# EAGLE library part NRF24L01 (library Fortech)
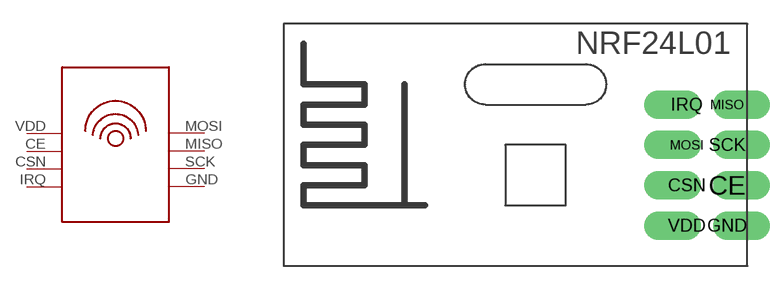
[diagram p6: symbol with the pads of NRF24L01; footprint NRF24L01]

Designator prefix -

## NRF24L01  [NRF24L01]
CE  CE
CSN  CSN
GND  GND
IRQ  IRQ
MISO  MISO
MOSI  MOSI
SCK  SCK
VDD  VDD

## Footprint NRF24L01 (pad centres in mm)
drill 1.2 offset: CE 1.27,-2.54; CSN -1.27,-2.54; GND 1.27,-5.08; IRQ -1.27,2.54; MISO 1.27,2.54; MOSI -1.27,0; SCK 1.27,0; VDD -1.27,-5.08